# EAGLE library part LED-BAR10 (library MakBit)
10 SEGMENT BAR GRAPH ARRAY Colors: B GGGG YYY RR
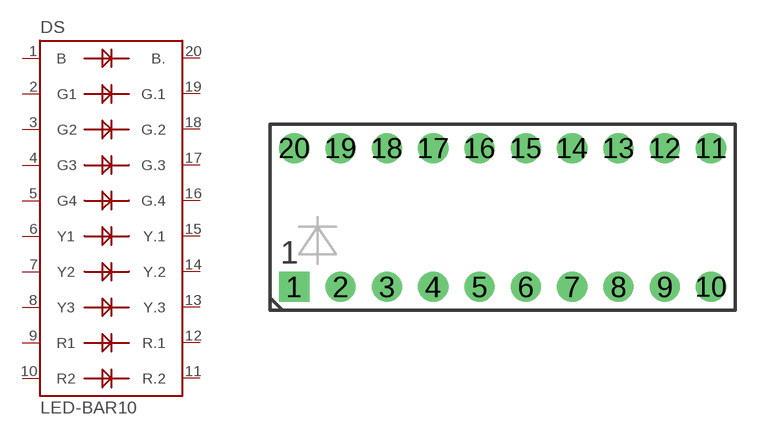
[diagram p10: symbol with the pads of LED-10SEG-2.54; footprint LED-10SEG-2.54]

Designator prefix DS

## LED-BAR10  [LED-10SEG-2.54]
1  B
2  G1
3  G2
4  G3
5  G4
6  Y1
7  Y2
8  Y3
9  R1
10  R2
11  R.2
12  R.1
13  Y.3
14  Y.2
15  Y.1
16  G.4
17  G.3
18  G.2
19  G.1
20  B.

## Footprint LED-10SEG-2.54 (pad centres in mm)
10 Segment RGBY LED, KYX-B10B6YR 25.4 x 10.2 mm Colors: B G G G G Y Y Y R Kingbright: DC10SRWA
drill 0.889 pad 1.651 square: 1 -11.43,-3.8
drill 0.889 pad 1.651: 2 -8.89,-3.8; 3 -6.35,-3.8; 4 -3.81,-3.8; 5 -1.27,-3.8; 6 1.27,-3.8; 7 3.81,-3.8; 8 6.35,-3.8; 9 8.89,-3.8; 10 11.43,-3.8; 11 11.43,3.8; 12 8.89,3.8; 13 6.35,3.8; 14 3.81,3.8; 15 1.27,3.8; 16 -1.27,3.8; 17 -3.81,3.8; 18 -6.35,3.8; 19 -8.89,3.8; 20 -11.43,3.8